# Altium integrated library TI_Logic_Little_Logic.IntLib: 1164 symbols (part 25 of 35)
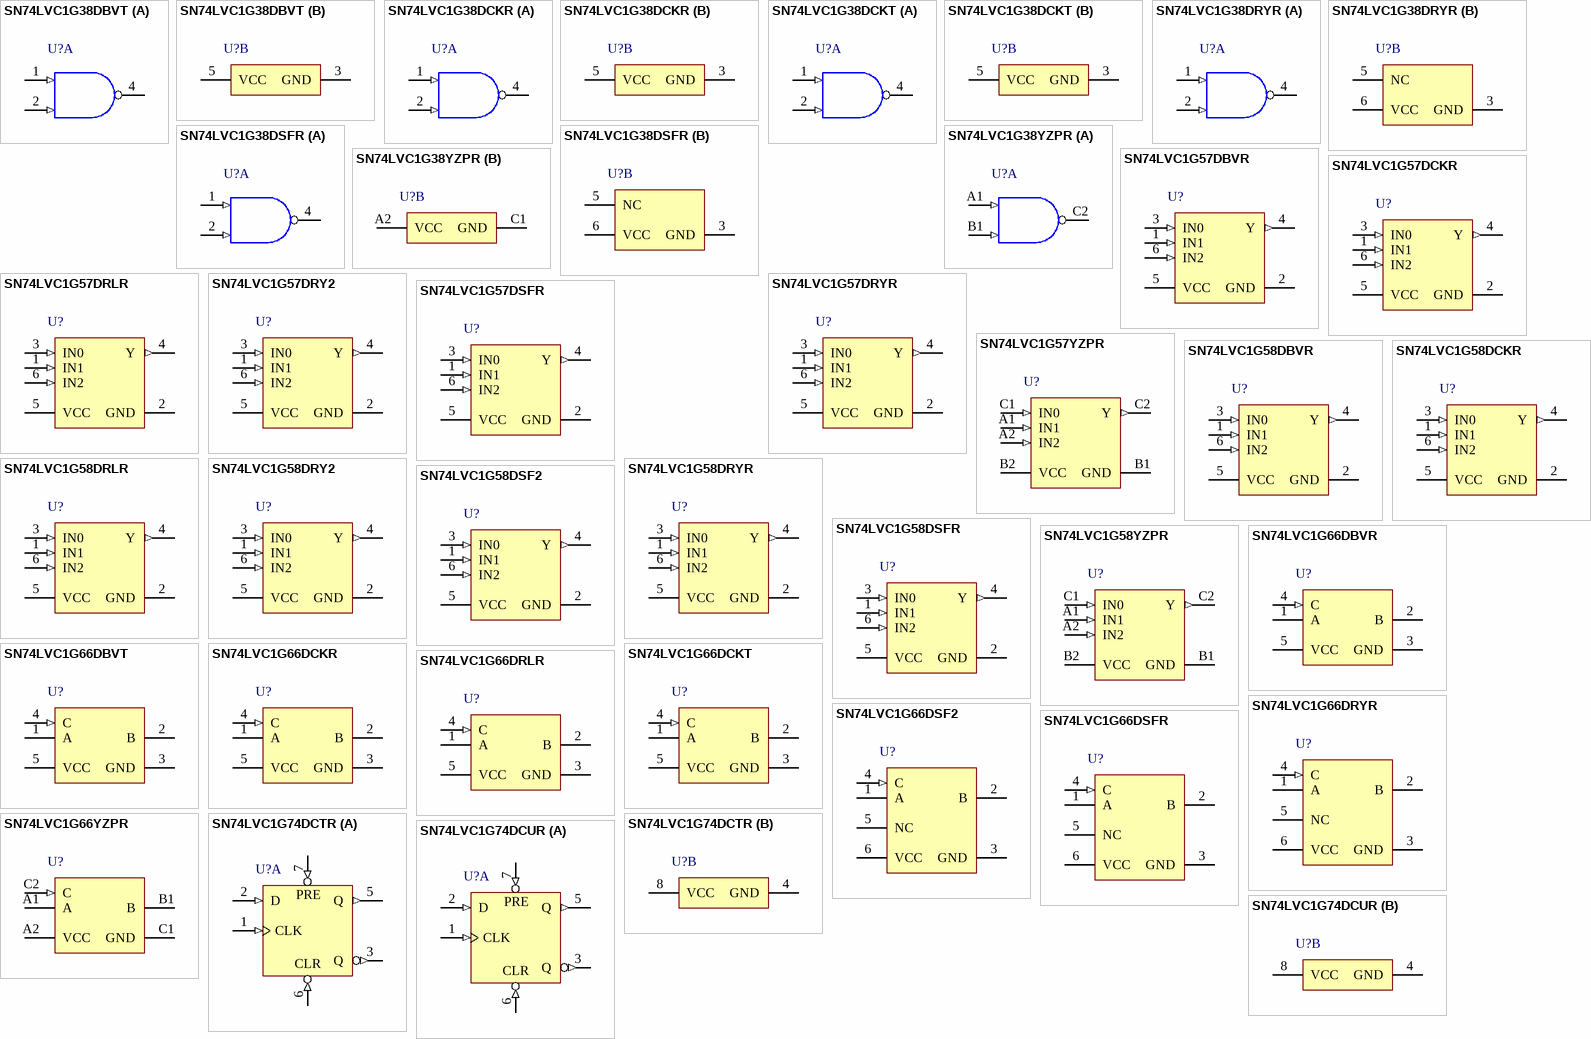
[diagram p84: symbols SN74LVC1G38DBVT to SN74LVC1G74DCUR]

## SN74LVC1G57DRLR
designator U?
CONFIGURABLE MULTIPLE-FUNCTION GATE, DRL0006A, LARGE T&R; Generic Part Number: SN74LVC1G57; Manufacturer: Texas Instruments; PartNumber: SN74LVC1G57DRLR; VCC(Min)(V): 1.65; VCC(Max)(V): 5.5; Output Type: CMOS; ICC @ Nom Voltage(Max)(mA): 0.01; Input Type: CMOS/TTL; Bits(#): 1; F @ Nom Voltage(Max)(Mhz): 150; Rating: Catalog; Technology Family: LVC; Voltage(Nom)(V): 1.8,2.5,3.3,5; Schmitt Trigger: No; Output Drive (IOL/IOH)(Max)(mA): 32/-32; tpd @ Nom Voltage(Max)(ns): 14.4,8.3,6.3,5.1; Logic: True; Sub-Family: Configurable Logic; DatasheetVersion: SCES414O; PackageReference: DRL0006A; Supplier 1: Mouser; Supplier Part Number 1: 595-SN74LVC1G57DRLR; Supplier 2: Digi-Key; Supplier Part Number 2: 296-18653-2-ND; Supplier 3: Digi-Key; Supplier Part Number 3: 296-18653-1-ND; Supplier 4: Digi-Key; Supplier Part Number 4: 296-18653-6-ND; Operating Temperature Range(C): -40 to 125; Gate Type: Configurable; 3-State Output: No; ComponentLink1Description: Manufacturer URL; ComponentLink1URL: http://www.ti.com/; ComponentLink2Description: Datasheet; ComponentLink2URL: http://www.ti.com/lit/ds/symlink/sn74lvc1g57.pdf
footprint DRL0006A_N (SOT23, 6-Leads, Body 1.7x1.3mm, Pitch 0.5mm, IPC Medium Density)
footprint DRL0006A_M (SOT23, 6-Leads, Body 1.7x1.3mm, Pitch 0.5mm, IPC Low Density)
footprint DRL0006A_L (SOT23, 6-Leads, Body 1.7x1.3mm, Pitch 0.5mm, IPC High Density)
pins: 1 IN1 (in), 2 GND (power), 3 IN0 (in), 4 Y (out), 5 VCC (power), 6 IN2 (in)

## SN74LVC1G57DRY2
designator U?
CONFIGURABLE MULTIPLE-FUNCTION GATE, DRY0006A, LARGE T&R; Generic Part Number: SN74LVC1G57; Manufacturer: Texas Instruments; PartNumber: SN74LVC1G57DRY2; VCC(Min)(V): 1.65; VCC(Max)(V): 5.5; Output Type: CMOS; ICC @ Nom Voltage(Max)(mA): 0.01; Input Type: CMOS/TTL; Bits(#): 1; F @ Nom Voltage(Max)(Mhz): 150; Rating: Catalog; Technology Family: LVC; Voltage(Nom)(V): 1.8,2.5,3.3,5; Schmitt Trigger: No; Output Drive (IOL/IOH)(Max)(mA): 32/-32; tpd @ Nom Voltage(Max)(ns): 14.4,8.3,6.3,5.1; Logic: True; Sub-Family: Configurable Logic; DatasheetVersion: SCES414O; PackageReference: DRY0006A; Supplier 1: Mouser; Supplier Part Number 1: 595-SN74LVC1G57DRY2; Supplier 2: Digi-Key; Supplier Part Number 2: 296-35756-2-ND; Supplier 3: Digi-Key; Supplier Part Number 3: 296-35756-1-ND; Supplier 4: Digi-Key; Supplier Part Number 4: 296-35756-6-ND; Operating Temperature Range(C): -40 to 125; Gate Type: Configurable; 3-State Output: No; ComponentLink1Description: Manufacturer URL; ComponentLink1URL: http://www.ti.com/; ComponentLink2Description: Datasheet; ComponentLink2URL: http://www.ti.com/lit/ds/symlink/sn74lvc1g57.pdf
footprint DRY0006A_V (SON, 6-Leads, Body 1.45x1mm, Pitch 0.5mm)
pins: 1 IN1 (in), 2 GND (power), 3 IN0 (in), 4 Y (out), 5 VCC (power), 6 IN2 (in)

## SN74LVC1G57DRYR
designator U?
CONFIGURABLE MULTIPLE-FUNCTION GATE, DRY0006A, LARGE T&R; Generic Part Number: SN74LVC1G57; Manufacturer: Texas Instruments; PartNumber: SN74LVC1G57DRYR; VCC(Min)(V): 1.65; VCC(Max)(V): 5.5; Output Type: CMOS; ICC @ Nom Voltage(Max)(mA): 0.01; Input Type: CMOS/TTL; Bits(#): 1; F @ Nom Voltage(Max)(Mhz): 150; Rating: Catalog; Technology Family: LVC; Voltage(Nom)(V): 1.8,2.5,3.3,5; Schmitt Trigger: No; Output Drive (IOL/IOH)(Max)(mA): 32/-32; tpd @ Nom Voltage(Max)(ns): 14.4,8.3,6.3,5.1; Logic: True; Sub-Family: Configurable Logic; DatasheetVersion: SCES414O; PackageReference: DRY0006A; Supplier 1: Mouser; Supplier Part Number 1: 595-SN74LVC1G57DRYR; Supplier 2: Digi-Key; Supplier Part Number 2: 296-29872-2-ND; Supplier 3: Digi-Key; Supplier Part Number 3: 296-29872-1-ND; Supplier 4: Digi-Key; Supplier Part Number 4: 296-29872-6-ND; Operating Temperature Range(C): -40 to 125; Gate Type: Configurable; 3-State Output: No; ComponentLink1Description: Manufacturer URL; ComponentLink1URL: http://www.ti.com/; ComponentLink2Description: Datasheet; ComponentLink2URL: http://www.ti.com/lit/ds/symlink/sn74lvc1g57.pdf
footprint DRY0006A_V (SON, 6-Leads, Body 1.45x1mm, Pitch 0.5mm)
pins: 1 IN1 (in), 2 GND (power), 3 IN0 (in), 4 Y (out), 5 VCC (power), 6 IN2 (in)

## SN74LVC1G57DSFR
designator U?
CONFIGURABLE MULTIPLE-FUNCTION GATE, DSF0006A, LARGE T&R; Generic Part Number: SN74LVC1G57; Manufacturer: Texas Instruments; PartNumber: SN74LVC1G57DSFR; VCC(Min)(V): 1.65; VCC(Max)(V): 5.5; Output Type: CMOS; ICC @ Nom Voltage(Max)(mA): 0.01; Input Type: CMOS/TTL; Bits(#): 1; F @ Nom Voltage(Max)(Mhz): 150; Rating: Catalog; Technology Family: LVC; Voltage(Nom)(V): 1.8,2.5,3.3,5; Schmitt Trigger: No; Output Drive (IOL/IOH)(Max)(mA): 32/-32; tpd @ Nom Voltage(Max)(ns): 14.4,8.3,6.3,5.1; Logic: True; Sub-Family: Configurable Logic; DatasheetVersion: SCES414O; PackageReference: DSF0006A; Supplier 1: Mouser; Supplier Part Number 1: 595-SN74LVC1G57DSFR; Supplier 2: Digi-Key; Supplier Part Number 2: 296-29873-2-ND; Supplier 3: Digi-Key; Supplier Part Number 3: 296-29873-1-ND; Supplier 4: Digi-Key; Supplier Part Number 4: 296-29873-6-ND; Operating Temperature Range(C): -40 to 125; Gate Type: Configurable; 3-State Output: No; ComponentLink1Description: Manufacturer URL; ComponentLink1URL: http://www.ti.com/; ComponentLink2Description: Datasheet; ComponentLink2URL: http://www.ti.com/lit/ds/symlink/sn74lvc1g57.pdf
footprint DSF0006A_V (SON, 6-Leads, Body 1x1mm, Pitch 0.35mm, TI Recommend)
pins: 1 IN1 (in), 2 GND (power), 3 IN0 (in), 4 Y (out), 5 VCC (power), 6 IN2 (in)

## SN74LVC1G57YZPR
designator U?
CONFIGURABLE MULTIPLE-FUNCTION GATE, YZP0006ADAD, LARGE T&R; Generic Part Number: SN74LVC1G57; Manufacturer: Texas Instruments; PartNumber: SN74LVC1G57YZPR; VCC(Min)(V): 1.65; VCC(Max)(V): 5.5; Output Type: CMOS; ICC @ Nom Voltage(Max)(mA): 0.01; Input Type: CMOS/TTL; Bits(#): 1; F @ Nom Voltage(Max)(Mhz): 150; Rating: Catalog; Technology Family: LVC; Voltage(Nom)(V): 1.8,2.5,3.3,5; Schmitt Trigger: No; Output Drive (IOL/IOH)(Max)(mA): 32/-32; tpd @ Nom Voltage(Max)(ns): 14.4,8.3,6.3,5.1; Logic: True; Sub-Family: Configurable Logic; DatasheetVersion: SCES414O; PackageReference: YZP0006ADAD; Supplier 1: Mouser; Supplier Part Number 1: 595-SN74LVC1G57YZPR; Supplier 2: Digi-Key; Supplier Part Number 2: 296-18784-2-ND; Supplier 3: Digi-Key; Supplier Part Number 3: 296-18784-1-ND; Operating Temperature Range(C): -40 to 125; Gate Type: Configurable; 3-State Output: No; ComponentLink1Description: Manufacturer URL; ComponentLink1URL: http://www.ti.com/; ComponentLink2Description: Datasheet; ComponentLink2URL: http://www.ti.com/lit/ds/symlink/sn74lvc1g57.pdf
footprint YZP0006ADAD (BGA, 6-Balls, Body 1.39x0.89mm, Pitch 0.5mm)
pins: A1 IN1 (in), A2 IN2 (in), B1 GND (power), B2 VCC (power), C1 IN0 (in), C2 Y (out)

## SN74LVC1G58DBVR
designator U?
CONFIGURABLE MULTIPLE-FUNCTION GATE, DBV0006A, LARGE T&R; Generic Part Number: SN74LVC1G58; Manufacturer: Texas Instruments; PartNumber: SN74LVC1G58DBVR; VCC(Min)(V): 1.65; VCC(Max)(V): 5.5; Output Type: CMOS; ICC @ Nom Voltage(Max)(mA): 0.01; Input Type: CMOS/TTL; Bits(#): 1; F @ Nom Voltage(Max)(Mhz): 150; Rating: Catalog; Technology Family: LVC; Voltage(Nom)(V): 1.8,2.5,3.3,5; Schmitt Trigger: No; Output Drive (IOL/IOH)(Max)(mA): 32/-32; tpd @ Nom Voltage(Max)(ns): 14.4,8.3,6.3,5.1; Logic: True; Sub-Family: Configurable Logic; DatasheetVersion: SCES415N; PackageReference: DBV0006A; Supplier 1: Mouser; Supplier Part Number 1: 595-SN74LVC1G58DBVR; Supplier 2: Digi-Key; Supplier Part Number 2: 296-15576-2-ND; Supplier 3: Digi-Key; Supplier Part Number 3: 296-15576-1-ND; Supplier 4: Digi-Key; Supplier Part Number 4: 296-15576-6-ND; Operating Temperature Range(C): -40 to 125,-40 to 85; Gate Type: Configurable; 3-State Output: No; ComponentLink1Description: Manufacturer URL; ComponentLink1URL: http://www.ti.com/; ComponentLink2Description: Datasheet; ComponentLink2URL: http://www.ti.com/lit/ds/symlink/sn74lvc1g58.pdf
footprint DBV0006A_N (SOT23, 6-Leads, Body 3.05x1.75mm, Pitch 0.95mm, IPC Medium Density)
footprint DBV0006A_M (SOT23, 6-Leads, Body 3.05x1.75mm, Pitch 0.95mm, IPC Low Density)
footprint DBV0006A_L (SOT23, 6-Leads, Body 3.05x1.75mm, Pitch 0.95mm, IPC High Density)
pins: 1 IN1 (in), 2 GND (power), 3 IN0 (in), 4 Y (out), 5 VCC (power), 6 IN2 (in)

## SN74LVC1G58DCKR
designator U?
CONFIGURABLE MULTIPLE-FUNCTION GATE, DCK0006A, LARGE T&R; Generic Part Number: SN74LVC1G58; Manufacturer: Texas Instruments; PartNumber: SN74LVC1G58DCKR; VCC(Min)(V): 1.65; VCC(Max)(V): 5.5; Output Type: CMOS; ICC @ Nom Voltage(Max)(mA): 0.01; Input Type: CMOS/TTL; Bits(#): 1; F @ Nom Voltage(Max)(Mhz): 150; Rating: Catalog; Technology Family: LVC; Voltage(Nom)(V): 1.8,2.5,3.3,5; Schmitt Trigger: No; Output Drive (IOL/IOH)(Max)(mA): 32/-32; tpd @ Nom Voltage(Max)(ns): 14.4,8.3,6.3,5.1; Logic: True; Sub-Family: Configurable Logic; DatasheetVersion: SCES415N; PackageReference: DCK0006A; Supplier 1: Mouser; Supplier Part Number 1: 595-SN74LVC1G58DCKR; Supplier 2: Digi-Key; Supplier Part Number 2: 296-15577-2-ND; Supplier 3: Digi-Key; Supplier Part Number 3: 296-15577-1-ND; Supplier 4: Digi-Key; Supplier Part Number 4: 296-15577-6-ND; Operating Temperature Range(C): -40 to 125,-40 to 85; Gate Type: Configurable; 3-State Output: No; ComponentLink1Description: Manufacturer URL; ComponentLink1URL: http://www.ti.com/; ComponentLink2Description: Datasheet; ComponentLink2URL: http://www.ti.com/lit/ds/symlink/sn74lvc1g58.pdf
footprint DCK0006A_N (SOT23, 6-Leads, Body 2.15x1.4mm, Pitch 0.65mm, IPC Medium Density)
footprint DCK0006A_M (SOT23, 6-Leads, Body 2.15x1.4mm, Pitch 0.65mm, IPC Low Density)
footprint DCK0006A_L (SOT23, 6-Leads, Body 2.15x1.4mm, Pitch 0.65mm, IPC High Density)
pins: 1 IN1 (in), 2 GND (power), 3 IN0 (in), 4 Y (out), 5 VCC (power), 6 IN2 (in)

## SN74LVC1G58DRLR
designator U?
CONFIGURABLE MULTIPLE-FUNCTION GATE, DRL0006A, LARGE T&R; Generic Part Number: SN74LVC1G58; Manufacturer: Texas Instruments; PartNumber: SN74LVC1G58DRLR; VCC(Min)(V): 1.65; VCC(Max)(V): 5.5; Output Type: CMOS; ICC @ Nom Voltage(Max)(mA): 0.01; Input Type: CMOS/TTL; Bits(#): 1; F @ Nom Voltage(Max)(Mhz): 150; Rating: Catalog; Technology Family: LVC; Voltage(Nom)(V): 1.8,2.5,3.3,5; Schmitt Trigger: No; Output Drive (IOL/IOH)(Max)(mA): 32/-32; tpd @ Nom Voltage(Max)(ns): 14.4,8.3,6.3,5.1; Logic: True; Sub-Family: Configurable Logic; DatasheetVersion: SCES415N; PackageReference: DRL0006A; Supplier 1: Mouser; Supplier Part Number 1: 595-SN74LVC1G58DRLR; Supplier 2: Digi-Key; Supplier Part Number 2: 296-18654-2-ND; Supplier 3: Digi-Key; Supplier Part Number 3: 296-18654-1-ND; Supplier 4: Digi-Key; Supplier Part Number 4: 296-18654-6-ND; Operating Temperature Range(C): -40 to 125,-40 to 85; Gate Type: Configurable; 3-State Output: No; ComponentLink1Description: Manufacturer URL; ComponentLink1URL: http://www.ti.com/; ComponentLink2Description: Datasheet; ComponentLink2URL: http://www.ti.com/lit/ds/symlink/sn74lvc1g58.pdf
footprint DRL0006A_N (SOT23, 6-Leads, Body 1.7x1.3mm, Pitch 0.5mm, IPC Medium Density)
footprint DRL0006A_M (SOT23, 6-Leads, Body 1.7x1.3mm, Pitch 0.5mm, IPC Low Density)
footprint DRL0006A_L (SOT23, 6-Leads, Body 1.7x1.3mm, Pitch 0.5mm, IPC High Density)
pins: 1 IN1 (in), 2 GND (power), 3 IN0 (in), 4 Y (out), 5 VCC (power), 6 IN2 (in)

## SN74LVC1G58DRY2
designator U?
CONFIGURABLE MULTIPLE-FUNCTION GATE, DRY0006A, LARGE T&R; Generic Part Number: SN74LVC1G58; Manufacturer: Texas Instruments; PartNumber: SN74LVC1G58DRY2; VCC(Min)(V): 1.65; VCC(Max)(V): 5.5; Output Type: CMOS; ICC @ Nom Voltage(Max)(mA): 0.01; Input Type: CMOS/TTL; Bits(#): 1; F @ Nom Voltage(Max)(Mhz): 150; Rating: Catalog; Technology Family: LVC; Voltage(Nom)(V): 1.8,2.5,3.3,5; Schmitt Trigger: No; Output Drive (IOL/IOH)(Max)(mA): 32/-32; tpd @ Nom Voltage(Max)(ns): 14.4,8.3,6.3,5.1; Logic: True; Sub-Family: Configurable Logic; DatasheetVersion: SCES415N; PackageReference: DRY0006A; Supplier 1: Mouser; Supplier Part Number 1: 595-SN74LVC1G58DRY2; Supplier 2: Digi-Key; Supplier Part Number 2: 296-35750-2-ND; Supplier 3: Digi-Key; Supplier Part Number 3: 296-35750-1-ND; Supplier 4: Digi-Key; Supplier Part Number 4: 296-35750-6-ND; Operating Temperature Range(C): -40 to 125,-40 to 85; Gate Type: Configurable; 3-State Output: No; ComponentLink1Description: Manufacturer URL; ComponentLink1URL: http://www.ti.com/; ComponentLink2Description: Datasheet; ComponentLink2URL: http://www.ti.com/lit/ds/symlink/sn74lvc1g58.pdf
footprint DRY0006A_V (SON, 6-Leads, Body 1.45x1mm, Pitch 0.5mm)
pins: 1 IN1 (in), 2 GND (power), 3 IN0 (in), 4 Y (out), 5 VCC (power), 6 IN2 (in)

## SN74LVC1G58DRYR
designator U?
CONFIGURABLE MULTIPLE-FUNCTION GATE, DRY0006A, LARGE T&R; Generic Part Number: SN74LVC1G58; Manufacturer: Texas Instruments; PartNumber: SN74LVC1G58DRYR; VCC(Min)(V): 1.65; VCC(Max)(V): 5.5; Output Type: CMOS; ICC @ Nom Voltage(Max)(mA): 0.01; Input Type: CMOS/TTL; Bits(#): 1; F @ Nom Voltage(Max)(Mhz): 150; Rating: Catalog; Technology Family: LVC; Voltage(Nom)(V): 1.8,2.5,3.3,5; Schmitt Trigger: No; Output Drive (IOL/IOH)(Max)(mA): 32/-32; tpd @ Nom Voltage(Max)(ns): 14.4,8.3,6.3,5.1; Logic: True; Sub-Family: Configurable Logic; DatasheetVersion: SCES415N; PackageReference: DRY0006A; Supplier 1: Mouser; Supplier Part Number 1: 595-SN74LVC1G58DRYR; Supplier 2: Digi-Key; Supplier Part Number 2: 296-29845-2-ND; Supplier 3: Digi-Key; Supplier Part Number 3: 296-29845-1-ND; Supplier 4: Digi-Key; Supplier Part Number 4: 296-29845-6-ND; Operating Temperature Range(C): -40 to 125,-40 to 85; Gate Type: Configurable; 3-State Output: No; ComponentLink1Description: Manufacturer URL; ComponentLink1URL: http://www.ti.com/; ComponentLink2Description: Datasheet; ComponentLink2URL: http://www.ti.com/lit/ds/symlink/sn74lvc1g58.pdf
footprint DRY0006A_V (SON, 6-Leads, Body 1.45x1mm, Pitch 0.5mm)
pins: 1 IN1 (in), 2 GND (power), 3 IN0 (in), 4 Y (out), 5 VCC (power), 6 IN2 (in)

## SN74LVC1G58DSF2
designator U?
CONFIGURABLE MULTIPLE-FUNCTION GATE, DSF0006A, LARGE T&R; Generic Part Number: SN74LVC1G58; Manufacturer: Texas Instruments; PartNumber: SN74LVC1G58DSF2; VCC(Min)(V): 1.65; VCC(Max)(V): 5.5; Output Type: CMOS; ICC @ Nom Voltage(Max)(mA): 0.01; Input Type: CMOS/TTL; Bits(#): 1; F @ Nom Voltage(Max)(Mhz): 150; Rating: Catalog; Technology Family: LVC; Voltage(Nom)(V): 1.8,2.5,3.3,5; Schmitt Trigger: No; Output Drive (IOL/IOH)(Max)(mA): 32/-32; tpd @ Nom Voltage(Max)(ns): 14.4,8.3,6.3,5.1; Logic: True; Sub-Family: Configurable Logic; DatasheetVersion: SCES415N; PackageReference: DSF0006A; Supplier 1: Mouser; Supplier Part Number 1: 595-SN74LVC1G58DSF2; Supplier 2: Digi-Key; Supplier Part Number 2: SN74LVC1G58DSF2-ND; Operating Temperature Range(C): -40 to 125,-40 to 85; Gate Type: Configurable; 3-State Output: No; ComponentLink1Description: Manufacturer URL; ComponentLink1URL: http://www.ti.com/; ComponentLink2Description: Datasheet; ComponentLink2URL: http://www.ti.com/lit/ds/symlink/sn74lvc1g58.pdf
footprint DSF0006A_V (SON, 6-Leads, Body 1x1mm, Pitch 0.35mm, TI Recommend)
pins: 1 IN1 (in), 2 GND (power), 3 IN0 (in), 4 Y (out), 5 VCC (power), 6 IN2 (in)

## SN74LVC1G58DSFR
designator U?
CONFIGURABLE MULTIPLE-FUNCTION GATE, DSF0006A, LARGE T&R; Generic Part Number: SN74LVC1G58; Manufacturer: Texas Instruments; PartNumber: SN74LVC1G58DSFR; VCC(Min)(V): 1.65; VCC(Max)(V): 5.5; Output Type: CMOS; ICC @ Nom Voltage(Max)(mA): 0.01; Input Type: CMOS/TTL; Bits(#): 1; F @ Nom Voltage(Max)(Mhz): 150; Rating: Catalog; Technology Family: LVC; Voltage(Nom)(V): 1.8,2.5,3.3,5; Schmitt Trigger: No; Output Drive (IOL/IOH)(Max)(mA): 32/-32; tpd @ Nom Voltage(Max)(ns): 14.4,8.3,6.3,5.1; Logic: True; Sub-Family: Configurable Logic; DatasheetVersion: SCES415N; PackageReference: DSF0006A; Supplier 1: Mouser; Supplier Part Number 1: 595-SN74LVC1G58DSFR; Supplier 2: Digi-Key; Supplier Part Number 2: 296-29846-2-ND; Supplier 3: Digi-Key; Supplier Part Number 3: 296-29846-1-ND; Supplier 4: Digi-Key; Supplier Part Number 4: 296-29846-6-ND; Operating Temperature Range(C): -40 to 125,-40 to 85; Gate Type: Configurable; 3-State Output: No; ComponentLink1Description: Manufacturer URL; ComponentLink1URL: http://www.ti.com/; ComponentLink2Description: Datasheet; ComponentLink2URL: http://www.ti.com/lit/ds/symlink/sn74lvc1g58.pdf
footprint DSF0006A_V (SON, 6-Leads, Body 1x1mm, Pitch 0.35mm, TI Recommend)
pins: 1 IN1 (in), 2 GND (power), 3 IN0 (in), 4 Y (out), 5 VCC (power), 6 IN2 (in)

## SN74LVC1G58YZPR
designator U?
CONFIGURABLE MULTIPLE-FUNCTION GATE, YZP0006ADAD, LARGE T&R; Generic Part Number: SN74LVC1G58; Manufacturer: Texas Instruments; PartNumber: SN74LVC1G58YZPR; VCC(Min)(V): 1.65; VCC(Max)(V): 5.5; Output Type: CMOS; ICC @ Nom Voltage(Max)(mA): 0.01; Input Type: CMOS/TTL; Bits(#): 1; F @ Nom Voltage(Max)(Mhz): 150; Rating: Catalog; Technology Family: LVC; Voltage(Nom)(V): 1.8,2.5,3.3,5; Schmitt Trigger: No; Output Drive (IOL/IOH)(Max)(mA): 32/-32; tpd @ Nom Voltage(Max)(ns): 14.4,8.3,6.3,5.1; Logic: True; Sub-Family: Configurable Logic; DatasheetVersion: SCES415N; PackageReference: YZP0006ADAD; Supplier 1: Mouser; Supplier Part Number 1: 595-SN74LVC1G58YZPR; Supplier 2: Digi-Key; Supplier Part Number 2: 296-18785-2-ND; Supplier 3: Digi-Key; Supplier Part Number 3: 296-18785-1-ND; Operating Temperature Range(C): -40 to 125,-40 to 85; Gate Type: Configurable; 3-State Output: No; ComponentLink1Description: Manufacturer URL; ComponentLink1URL: http://www.ti.com/; ComponentLink2Description: Datasheet; ComponentLink2URL: http://www.ti.com/lit/ds/symlink/sn74lvc1g58.pdf
footprint YZP0006ADAD (BGA, 6-Balls, Body 1.39x0.89mm, Pitch 0.5mm)
pins: A1 IN1 (in), A2 IN2 (in), B1 GND (power), B2 VCC (power), C1 IN0 (in), C2 Y (out)

## SN74LVC1G66DBVR
designator U?
Single Analog Switch, DBV0005A, LARGE T&R; Generic Part Number: SN74LVC1G66; Manufacturer: Texas Instruments; PartNumber: SN74LVC1G66DBVR; VCC(Min)(V): 1.65; VCC(Max)(V): 5.5; Output Type: CMOS; Logic: True; ICC @ Nom Voltage(Max)(mA): 0.01; Input Type: CMOS/TTL; Bits(#): 1; F @ Nom Voltage(Max)(Mhz): 150; Rating: Catalog; Technology Family: LVC; Voltage(Nom)(V): 1.8,2.5,3.3,5; Schmitt Trigger: No; Output Drive (IOL/IOH)(Max)(mA): 32/-32; Switch Configuration: SPST; tpd @ Nom Voltage(Max)(ns): 2,1.2,0.8,0.6; DatasheetVersion: SCES323O; PackageReference: DBV0005A; Supplier 1: Mouser; Supplier Part Number 1: 595-SN74LVC1G66DBVR; Supplier 2: Digi-Key; Supplier Part Number 2: 296-13253-2-ND; Supplier 3: Digi-Key; Supplier Part Number 3: 296-13253-1-ND; Supplier 4: Digi-Key; Supplier Part Number 4: 296-13253-6-ND; Operating Temperature Range(C): -40 to 85; Channels(#): 1; 3-State Output: No; ComponentLink1Description: Manufacturer URL; ComponentLink1URL: http://www.ti.com/; ComponentLink2Description: Datasheet; ComponentLink2URL: http://www.ti.com/lit/ds/symlink/sn74lvc1g66.pdf
footprint DBV0005A_N (SOT23, 5-Leads, Body 3.05x1.75mm, Pitch 0.95mm, IPC Medium Density)
footprint DBV0005A_M (SOT23, 5-Leads, Body 3.05x1.75mm, Pitch 0.95mm, IPC Low Density)
footprint DBV0005A_L (SOT23, 5-Leads, Body 3.05x1.75mm, Pitch 0.95mm, IPC High Density)
pins: 1 A "Bidirectional signal to be switched", 2 B "Bidirectional signal to be switched", 3 GND (power) "Ground pin", 4 C (in) "Controls the switch (L = OFF, H = ON)", 5 VCC (power) "Power pin"

## SN74LVC1G66DBVT
designator U?
Single Analog Switch, DBV0005A, SMALL T&R; Generic Part Number: SN74LVC1G66; Manufacturer: Texas Instruments; PartNumber: SN74LVC1G66DBVT; VCC(Min)(V): 1.65; VCC(Max)(V): 5.5; Output Type: CMOS; Logic: True; ICC @ Nom Voltage(Max)(mA): 0.01; Input Type: CMOS/TTL; Bits(#): 1; F @ Nom Voltage(Max)(Mhz): 150; Rating: Catalog; Technology Family: LVC; Voltage(Nom)(V): 1.8,2.5,3.3,5; Schmitt Trigger: No; Output Drive (IOL/IOH)(Max)(mA): 32/-32; Switch Configuration: SPST; tpd @ Nom Voltage(Max)(ns): 2,1.2,0.8,0.6; DatasheetVersion: SCES323O; PackageReference: DBV0005A; Supplier 1: Mouser; Supplier Part Number 1: 595-SN74LVC1G66DBVT; Supplier 2: Digi-Key; Supplier Part Number 2: 296-26605-2-ND; Supplier 3: Digi-Key; Supplier Part Number 3: 296-26605-1-ND; Supplier 4: Digi-Key; Supplier Part Number 4: 296-26605-6-ND; Operating Temperature Range(C): -40 to 85; Channels(#): 1; 3-State Output: No; ComponentLink1Description: Manufacturer URL; ComponentLink1URL: http://www.ti.com/; ComponentLink2Description: Datasheet; ComponentLink2URL: http://www.ti.com/lit/ds/symlink/sn74lvc1g66.pdf
footprint DBV0005A_N (SOT23, 5-Leads, Body 3.05x1.75mm, Pitch 0.95mm, IPC Medium Density)
footprint DBV0005A_M (SOT23, 5-Leads, Body 3.05x1.75mm, Pitch 0.95mm, IPC Low Density)
footprint DBV0005A_L (SOT23, 5-Leads, Body 3.05x1.75mm, Pitch 0.95mm, IPC High Density)
pins: 1 A "Bidirectional signal to be switched", 2 B "Bidirectional signal to be switched", 3 GND (power) "Ground pin", 4 C (in) "Controls the switch (L = OFF, H = ON)", 5 VCC (power) "Power pin"

## SN74LVC1G66DCKR
designator U?
Single Analog Switch, DCK0005A, LARGE T&R; Generic Part Number: SN74LVC1G66; Manufacturer: Texas Instruments; PartNumber: SN74LVC1G66DCKR; VCC(Min)(V): 1.65; VCC(Max)(V): 5.5; Output Type: CMOS; Logic: True; ICC @ Nom Voltage(Max)(mA): 0.01; Input Type: CMOS/TTL; Bits(#): 1; F @ Nom Voltage(Max)(Mhz): 150; Rating: Catalog; Technology Family: LVC; Voltage(Nom)(V): 1.8,2.5,3.3,5; Schmitt Trigger: No; Output Drive (IOL/IOH)(Max)(mA): 32/-32; Switch Configuration: SPST; tpd @ Nom Voltage(Max)(ns): 2,1.2,0.8,0.6; DatasheetVersion: SCES323O; PackageReference: DCK0005A; Supplier 1: Mouser; Supplier Part Number 1: 595-SN74LVC1G66DCKR; Supplier 2: Digi-Key; Supplier Part Number 2: 296-13254-2-ND; Supplier 3: Digi-Key; Supplier Part Number 3: 296-13254-1-ND; Supplier 4: Digi-Key; Supplier Part Number 4: 296-13254-6-ND; Operating Temperature Range(C): -40 to 85; Channels(#): 1; 3-State Output: No; ComponentLink1Description: Manufacturer URL; ComponentLink1URL: http://www.ti.com/; ComponentLink2Description: Datasheet; ComponentLink2URL: http://www.ti.com/lit/ds/symlink/sn74lvc1g66.pdf
footprint DCK0005A_N (SOT23, 5-Leads, Body 2.15x1.4mm, Pitch 0.65mm, IPC Medium Density)
footprint DCK0005A_M (SOT23, 5-Leads, Body 2.15x1.4mm, Pitch 0.65mm, IPC Low Density)
footprint DCK0005A_L (SOT23, 5-Leads, Body 2.15x1.4mm, Pitch 0.65mm, IPC High Density)
pins: 1 A "Bidirectional signal to be switched", 2 B "Bidirectional signal to be switched", 3 GND (power) "Ground pin", 4 C (in) "Controls the switch (L = OFF, H = ON)", 5 VCC (power) "Power pin"

## SN74LVC1G66DCKT
designator U?
Single Analog Switch, DCK0005A, SMALL T&R; Generic Part Number: SN74LVC1G66; Manufacturer: Texas Instruments; PartNumber: SN74LVC1G66DCKT; VCC(Min)(V): 1.65; VCC(Max)(V): 5.5; Output Type: CMOS; Logic: True; ICC @ Nom Voltage(Max)(mA): 0.01; Input Type: CMOS/TTL; Bits(#): 1; F @ Nom Voltage(Max)(Mhz): 150; Rating: Catalog; Technology Family: LVC; Voltage(Nom)(V): 1.8,2.5,3.3,5; Schmitt Trigger: No; Output Drive (IOL/IOH)(Max)(mA): 32/-32; Switch Configuration: SPST; tpd @ Nom Voltage(Max)(ns): 2,1.2,0.8,0.6; DatasheetVersion: SCES323O; PackageReference: DCK0005A; Supplier 1: Mouser; Supplier Part Number 1: 595-SN74LVC1G66DCKT; Supplier 2: Digi-Key; Supplier Part Number 2: 296-32304-2-ND; Supplier 3: Digi-Key; Supplier Part Number 3: 296-32304-1-ND; Supplier 4: Digi-Key; Supplier Part Number 4: 296-32304-6-ND; Operating Temperature Range(C): -40 to 85; Channels(#): 1; 3-State Output: No; ComponentLink1Description: Manufacturer URL; ComponentLink1URL: http://www.ti.com/; ComponentLink2Description: Datasheet; ComponentLink2URL: http://www.ti.com/lit/ds/symlink/sn74lvc1g66.pdf
footprint DCK0005A_N (SOT23, 5-Leads, Body 2.15x1.4mm, Pitch 0.65mm, IPC Medium Density)
footprint DCK0005A_M (SOT23, 5-Leads, Body 2.15x1.4mm, Pitch 0.65mm, IPC Low Density)
footprint DCK0005A_L (SOT23, 5-Leads, Body 2.15x1.4mm, Pitch 0.65mm, IPC High Density)
pins: 1 A "Bidirectional signal to be switched", 2 B "Bidirectional signal to be switched", 3 GND (power) "Ground pin", 4 C (in) "Controls the switch (L = OFF, H = ON)", 5 VCC (power) "Power pin"

## SN74LVC1G66DRLR
designator U?
Single Analog Switch, DRL0005A, LARGE T&R; Generic Part Number: SN74LVC1G66; Manufacturer: Texas Instruments; PartNumber: SN74LVC1G66DRLR; VCC(Min)(V): 1.65; VCC(Max)(V): 5.5; Output Type: CMOS; Logic: True; ICC @ Nom Voltage(Max)(mA): 0.01; Input Type: CMOS/TTL; Bits(#): 1; F @ Nom Voltage(Max)(Mhz): 150; Rating: Catalog; Technology Family: LVC; Voltage(Nom)(V): 1.8,2.5,3.3,5; Schmitt Trigger: No; Output Drive (IOL/IOH)(Max)(mA): 32/-32; Switch Configuration: SPST; tpd @ Nom Voltage(Max)(ns): 2,1.2,0.8,0.6; DatasheetVersion: SCES323O; PackageReference: DRL0005A; Supplier 1: Mouser; Supplier Part Number 1: 595-SN74LVC1G66DRLR; Supplier 2: Digi-Key; Supplier Part Number 2: 296-18018-2-ND; Supplier 3: Digi-Key; Supplier Part Number 3: 296-18018-1-ND; Supplier 4: Digi-Key; Supplier Part Number 4: 296-18018-6-ND; Operating Temperature Range(C): -40 to 85; Channels(#): 1; 3-State Output: No; ComponentLink1Description: Manufacturer URL; ComponentLink1URL: http://www.ti.com/; ComponentLink2Description: Datasheet; ComponentLink2URL: http://www.ti.com/lit/ds/symlink/sn74lvc1g66.pdf
footprint DRL0005A_N (SOT23, 5-Leads, Body 1.7x1.3mm, Pitch 0.5mm, IPC Medium Density)
footprint DRL0005A_M (SOT23, 5-Leads, Body 1.7x1.3mm, Pitch 0.5mm, IPC Low Density)
footprint DRL0005A_L (SOT23, 5-Leads, Body 1.7x1.3mm, Pitch 0.5mm, IPC High Density)
pins: 1 A "Bidirectional signal to be switched", 2 B "Bidirectional signal to be switched", 3 GND (power) "Ground pin", 4 C (in) "Controls the switch (L = OFF, H = ON)", 5 VCC (power) "Power pin"

## SN74LVC1G66DRYR
designator U?
Single Analog Switch, DRY0006A, LARGE T&R; Generic Part Number: SN74LVC1G66; Manufacturer: Texas Instruments; PartNumber: SN74LVC1G66DRYR; VCC(Min)(V): 1.65; VCC(Max)(V): 5.5; Output Type: CMOS; Logic: True; ICC @ Nom Voltage(Max)(mA): 0.01; Input Type: CMOS/TTL; Bits(#): 1; F @ Nom Voltage(Max)(Mhz): 150; Rating: Catalog; Technology Family: LVC; Voltage(Nom)(V): 1.8,2.5,3.3,5; Schmitt Trigger: No; Output Drive (IOL/IOH)(Max)(mA): 32/-32; Switch Configuration: SPST; tpd @ Nom Voltage(Max)(ns): 2,1.2,0.8,0.6; DatasheetVersion: SCES323O; PackageReference: DRY0006A; Supplier 1: Mouser; Supplier Part Number 1: 595-SN74LVC1G66DRYR; Supplier 2: Digi-Key; Supplier Part Number 2: 296-30237-2-ND; Supplier 3: Digi-Key; Supplier Part Number 3: 296-30237-1-ND; Supplier 4: Digi-Key; Supplier Part Number 4: 296-30237-6-ND; Operating Temperature Range(C): -40 to 85; Channels(#): 1; 3-State Output: No; ComponentLink1Description: Manufacturer URL; ComponentLink1URL: http://www.ti.com/; ComponentLink2Description: Datasheet; ComponentLink2URL: http://www.ti.com/lit/ds/symlink/sn74lvc1g66.pdf
footprint DRY0006A_V (SON, 6-Leads, Body 1.45x1mm, Pitch 0.5mm)
pins: 1 A "Bidirectional signal to be switched", 2 B "Bidirectional signal to be switched", 3 GND (power) "Ground pin", 4 C (in) "Controls the switch (L = OFF, H = ON)", 5 NC "Do not connect", 6 VCC (power) "Power pin"

## SN74LVC1G66DSF2
designator U?
Single Analog Switch, DSF0006A, LARGE T&R; Generic Part Number: SN74LVC1G66; Manufacturer: Texas Instruments; PartNumber: SN74LVC1G66DSF2; VCC(Min)(V): 1.65; VCC(Max)(V): 5.5; Output Type: CMOS; Logic: True; ICC @ Nom Voltage(Max)(mA): 0.01; Input Type: CMOS/TTL; Bits(#): 1; F @ Nom Voltage(Max)(Mhz): 150; Rating: Catalog; Technology Family: LVC; Voltage(Nom)(V): 1.8,2.5,3.3,5; Schmitt Trigger: No; Output Drive (IOL/IOH)(Max)(mA): 32/-32; Switch Configuration: SPST; tpd @ Nom Voltage(Max)(ns): 2,1.2,0.8,0.6; DatasheetVersion: SCES323O; PackageReference: DSF0006A; Supplier 1: Mouser; Supplier Part Number 1: 595-SN74LVC1G66DSF2; Supplier 2: Digi-Key; Supplier Part Number 2: SN74LVC1G66DSF2-ND; Operating Temperature Range(C): -40 to 85; Channels(#): 1; 3-State Output: No; ComponentLink1Description: Manufacturer URL; ComponentLink1URL: http://www.ti.com/; ComponentLink2Description: Datasheet; ComponentLink2URL: http://www.ti.com/lit/ds/symlink/sn74lvc1g66.pdf
footprint DSF0006A_V (SON, 6-Leads, Body 1x1mm, Pitch 0.35mm, TI Recommend)
pins: 1 A "Bidirectional signal to be switched", 2 B "Bidirectional signal to be switched", 3 GND (power) "Ground pin", 4 C (in) "Controls the switch (L = OFF, H = ON)", 5 NC "Do not connect", 6 VCC (power) "Power pin"

## SN74LVC1G66DSFR
designator U?
Single Analog Switch, DSF0006A, LARGE T&R; Generic Part Number: SN74LVC1G66; Manufacturer: Texas Instruments; PartNumber: SN74LVC1G66DSFR; VCC(Min)(V): 1.65; VCC(Max)(V): 5.5; Output Type: CMOS; Logic: True; ICC @ Nom Voltage(Max)(mA): 0.01; Input Type: CMOS/TTL; Bits(#): 1; F @ Nom Voltage(Max)(Mhz): 150; Rating: Catalog; Technology Family: LVC; Voltage(Nom)(V): 1.8,2.5,3.3,5; Schmitt Trigger: No; Output Drive (IOL/IOH)(Max)(mA): 32/-32; Switch Configuration: SPST; tpd @ Nom Voltage(Max)(ns): 2,1.2,0.8,0.6; DatasheetVersion: SCES323O; PackageReference: DSF0006A; Supplier 1: Mouser; Supplier Part Number 1: 595-SN74LVC1G66DSFR; Supplier 2: Digi-Key; Supplier Part Number 2: 296-30236-2-ND; Supplier 3: Digi-Key; Supplier Part Number 3: 296-30236-1-ND; Supplier 4: Digi-Key; Supplier Part Number 4: 296-30236-6-ND; Operating Temperature Range(C): -40 to 85; Channels(#): 1; 3-State Output: No; ComponentLink1Description: Manufacturer URL; ComponentLink1URL: http://www.ti.com/; ComponentLink2Description: Datasheet; ComponentLink2URL: http://www.ti.com/lit/ds/symlink/sn74lvc1g66.pdf
footprint DSF0006A_V (SON, 6-Leads, Body 1x1mm, Pitch 0.35mm, TI Recommend)
pins: 1 A "Bidirectional signal to be switched", 2 B "Bidirectional signal to be switched", 3 GND (power) "Ground pin", 4 C (in) "Controls the switch (L = OFF, H = ON)", 5 NC "Do not connect", 6 VCC (power) "Power pin"

## SN74LVC1G66YZPR
designator U?
Single Analog Switch, YZP0005ADAD, LARGE T&R; Generic Part Number: SN74LVC1G66; Manufacturer: Texas Instruments; PartNumber: SN74LVC1G66YZPR; VCC(Min)(V): 1.65; VCC(Max)(V): 5.5; Output Type: CMOS; Logic: True; ICC @ Nom Voltage(Max)(mA): 0.01; Input Type: CMOS/TTL; Bits(#): 1; F @ Nom Voltage(Max)(Mhz): 150; Rating: Catalog; Technology Family: LVC; Voltage(Nom)(V): 1.8,2.5,3.3,5; Schmitt Trigger: No; Output Drive (IOL/IOH)(Max)(mA): 32/-32; Switch Configuration: SPST; tpd @ Nom Voltage(Max)(ns): 2,1.2,0.8,0.6; DatasheetVersion: SCES323O; PackageReference: YZP0005ADAD; Supplier 1: Mouser; Supplier Part Number 1: 595-SN74LVC1G66YZPR; Supplier 2: Digi-Key; Supplier Part Number 2: 296-15108-2-ND; Supplier 3: Digi-Key; Supplier Part Number 3: 296-15108-1-ND; Supplier 4: Digi-Key; Supplier Part Number 4: 296-15108-6-ND; Operating Temperature Range(C): -40 to 85; Channels(#): 1; 3-State Output: No; ComponentLink1Description: Manufacturer URL; ComponentLink1URL: http://www.ti.com/; ComponentLink2Description: Datasheet; ComponentLink2URL: http://www.ti.com/lit/ds/symlink/sn74lvc1g66.pdf
footprint YZP0005ADAD (BGA, 5-Balls, Body 1.39x0.89mm, Pitch 0.5mm)
pins: A1 A, A2 VCC (power), B1 B, C1 GND (power), C2 C (in)

## SN74LVC1G74DCTR
designator U?
Single Positive-Edge-Triggered D-Type Flip-Flop With Clear and Preset, DCT0008A, LARGE T&R; Generic Part Number: SN74LVC1G74; Manufacturer: Texas Instruments; PartNumber: SN74LVC1G74DCTR; VCC(Min)(V): 1.65; VCC(Max)(V): 5.5; Output Type: CMOS; ICC @ Nom Voltage(Max)(mA): 0.01; Input Type: CMOS/TTL; Bits(#): 1; F @ Nom Voltage(Max)(Mhz): 150; Rating: Catalog; Technology Family: LVC; Voltage(Nom)(V): 1.8,2.5,3.3,5; Schmitt Trigger: No; Output Drive (IOL/IOH)(Max)(mA): 32/-32; tpd @ Nom Voltage(Max)(ns): 13.4,7.1,5.9,4.1; Logic: True; DatasheetVersion: SCES794E; PackageReference: DCT0008A; Supplier 1: Mouser; Supplier Part Number 1: 595-SN74LVC1G74DCTR; Supplier 2: Digi-Key; Supplier Part Number 2: 296-25553-2-ND; Supplier 3: Digi-Key; Supplier Part Number 3: 296-25553-1-ND; Supplier 4: Digi-Key; Supplier Part Number 4: 296-25553-6-ND; Operating Temperature Range(C): -40 to 125; 3-State Output: No; Sub-Family: D-Type Flip-Flop; ComponentLink1Description: Manufacturer URL; ComponentLink1URL: http://www.ti.com/; ComponentLink2Description: Datasheet; ComponentLink2URL: http://www.ti.com/lit/ds/symlink/sn74lvc1g74.pdf
footprint DCT0008A_N (SOP, 8-Leads, Body 2.9x3.2mm, Pitch 0.65mm, IPC Medium Density)
footprint DCT0008A_M (SOP, 8-Leads, Body 2.9x3.2mm, Pitch 0.65mm, IPC Low Density)
footprint DCT0008A_L (SOP, 8-Leads, Body 2.9x3.2mm, Pitch 0.65mm, IPC High Density)
part A pins: 1 CLK (in) "Clock input", 2 D (in) "Input", 3 Q (out) "Inverted output", 5 Q (out) "Output", 6 ~{CLR} (in) "Clear input - Pull low to set Q output low", 7 ~{PRE} (in) "Preset input - Pull low to set Q output high"
part B pins: 4 GND (power) "Ground", 8 VCC (power) "Supply"
part A text: PRE; CLR

## SN74LVC1G74DCUR
designator U?
Single Positive-Edge-Triggered D-Type Flip-Flop With Clear and Preset, DCU0008A, LARGE T&R; Generic Part Number: SN74LVC1G74; Manufacturer: Texas Instruments; PartNumber: SN74LVC1G74DCUR; VCC(Min)(V): 1.65; VCC(Max)(V): 5.5; Output Type: CMOS; ICC @ Nom Voltage(Max)(mA): 0.01; Input Type: CMOS/TTL; Bits(#): 1; F @ Nom Voltage(Max)(Mhz): 150; Rating: Catalog; Technology Family: LVC; Voltage(Nom)(V): 1.8,2.5,3.3,5; Schmitt Trigger: No; Output Drive (IOL/IOH)(Max)(mA): 32/-32; tpd @ Nom Voltage(Max)(ns): 13.4,7.1,5.9,4.1; Logic: True; DatasheetVersion: SCES794E; PackageReference: DCU0008A; Supplier 1: Mouser; Supplier Part Number 1: 595-SN74LVC1G74DCUR; Supplier 2: Digi-Key; Supplier Part Number 2: 296-25554-2-ND; Supplier 3: Digi-Key; Supplier Part Number 3: 296-25554-1-ND; Supplier 4: Digi-Key; Supplier Part Number 4: 296-25554-6-ND; Operating Temperature Range(C): -40 to 125; 3-State Output: No; Sub-Family: D-Type Flip-Flop; ComponentLink1Description: Manufacturer URL; ComponentLink1URL: http://www.ti.com/; ComponentLink2Description: Datasheet; ComponentLink2URL: http://www.ti.com/lit/ds/symlink/sn74lvc1g74.pdf
footprint DCU0008A_N (SOP, 8-Leads, Body 2.4x2.1mm, Pitch 0.5mm, IPC Medium Density)
footprint DCU0008A_M (SOP, 8-Leads, Body 2.4x2.1mm, Pitch 0.5mm, IPC Low Density)
footprint DCU0008A_L (SOP, 8-Leads, Body 2.4x2.1mm, Pitch 0.5mm, IPC High Density)
part A pins: 1 CLK (in) "Clock input", 2 D (in) "Input", 3 Q (out) "Inverted output", 5 Q (out) "Output", 6 ~{CLR} (in) "Clear input - Pull low to set Q output low", 7 ~{PRE} (in) "Preset input - Pull low to set Q output high"
part B pins: 4 GND (power) "Ground", 8 VCC (power) "Supply"
part A text: PRE; CLR

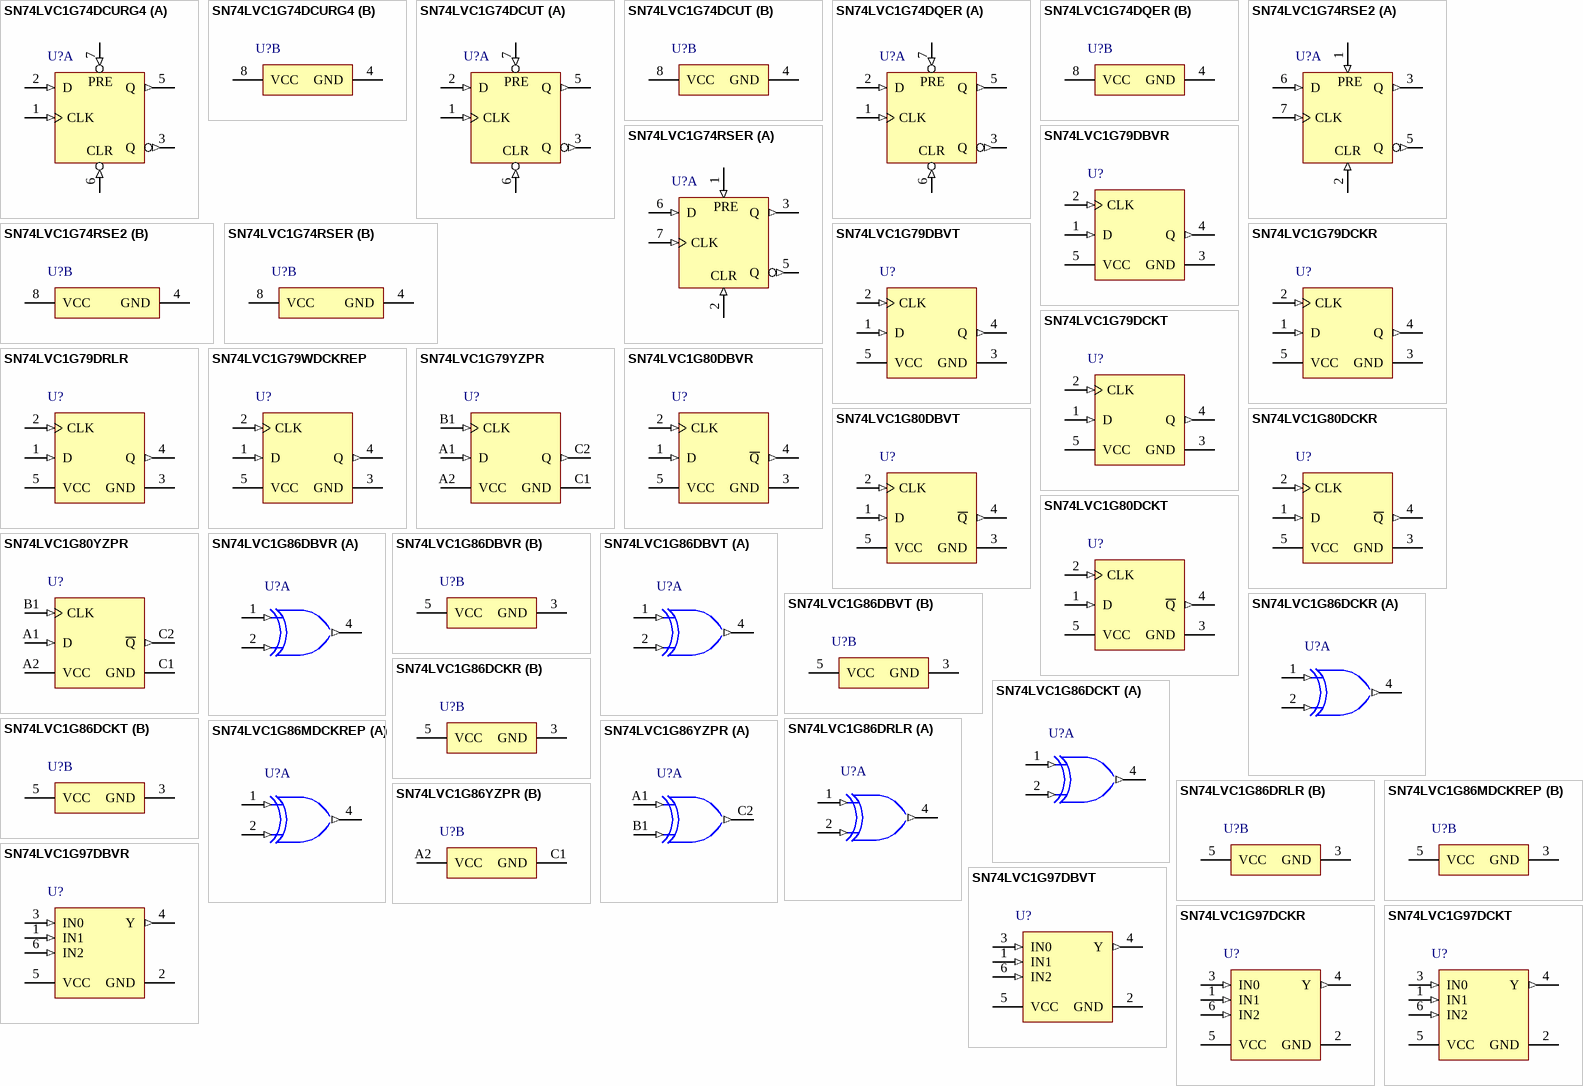
[diagram p42: symbols SN74LVC1G74DCURG4 to SN74LVC1G97DCKT]

## SN74LVC1G74DCURG4
designator U?
Single Positive-Edge-Triggered D-Type Flip-Flop With Clear and Preset, DCU0008A, LARGE T&R; Generic Part Number: SN74LVC1G74; Manufacturer: Texas Instruments; PartNumber: SN74LVC1G74DCURG4; VCC(Min)(V): 1.65; VCC(Max)(V): 5.5; Output Type: CMOS; ICC @ Nom Voltage(Max)(mA): 0.01; Input Type: CMOS/TTL; Bits(#): 1; F @ Nom Voltage(Max)(Mhz): 150; Rating: Catalog; Technology Family: LVC; Voltage(Nom)(V): 1.8,2.5,3.3,5; Schmitt Trigger: No; Output Drive (IOL/IOH)(Max)(mA): 32/-32; tpd @ Nom Voltage(Max)(ns): 13.4,7.1,5.9,4.1; Logic: True; DatasheetVersion: SCES794E; PackageReference: DCU0008A; Supplier 1: Mouser; Supplier Part Number 1: 595-N74LVC1G74DCURG4; Supplier 2: Digi-Key; Supplier Part Number 2: SN74LVC1G74DCURG4-ND; Operating Temperature Range(C): -40 to 125; 3-State Output: No; Sub-Family: D-Type Flip-Flop; ComponentLink1Description: Manufacturer URL; ComponentLink1URL: http://www.ti.com/; ComponentLink2Description: Datasheet; ComponentLink2URL: http://www.ti.com/lit/ds/symlink/sn74lvc1g74.pdf
footprint DCU0008A_N (SOP, 8-Leads, Body 2.4x2.1mm, Pitch 0.5mm, IPC Medium Density)
footprint DCU0008A_M (SOP, 8-Leads, Body 2.4x2.1mm, Pitch 0.5mm, IPC Low Density)
footprint DCU0008A_L (SOP, 8-Leads, Body 2.4x2.1mm, Pitch 0.5mm, IPC High Density)
part A pins: 1 CLK (in) "Clock input", 2 D (in) "Input", 3 Q (out) "Inverted output", 5 Q (out) "Output", 6 ~{CLR} (in) "Clear input - Pull low to set Q output low", 7 ~{PRE} (in) "Preset input - Pull low to set Q output high"
part B pins: 4 GND (power) "Ground", 8 VCC (power) "Supply"
part A text: PRE; CLR

## SN74LVC1G74DCUT
designator U?
Single Positive-Edge-Triggered D-Type Flip-Flop With Clear and Preset, DCU0008A, SMALL T&R; Generic Part Number: SN74LVC1G74; Manufacturer: Texas Instruments; PartNumber: SN74LVC1G74DCUT; VCC(Min)(V): 1.65; VCC(Max)(V): 5.5; Output Type: CMOS; ICC @ Nom Voltage(Max)(mA): 0.01; Input Type: CMOS/TTL; Bits(#): 1; F @ Nom Voltage(Max)(Mhz): 150; Rating: Catalog; Technology Family: LVC; Voltage(Nom)(V): 1.8,2.5,3.3,5; Schmitt Trigger: No; Output Drive (IOL/IOH)(Max)(mA): 32/-32; tpd @ Nom Voltage(Max)(ns): 13.4,7.1,5.9,4.1; Logic: True; DatasheetVersion: SCES794E; PackageReference: DCU0008A; Supplier 1: Mouser; Supplier Part Number 1: 595-SN74LVC1G74DCUT; Supplier 2: Digi-Key; Supplier Part Number 2: 296-32305-2-ND; Supplier 3: Digi-Key; Supplier Part Number 3: 296-32305-1-ND; Supplier 4: Digi-Key; Supplier Part Number 4: 296-32305-6-ND; Operating Temperature Range(C): -40 to 125; 3-State Output: No; Sub-Family: D-Type Flip-Flop; ComponentLink1Description: Manufacturer URL; ComponentLink1URL: http://www.ti.com/; ComponentLink2Description: Datasheet; ComponentLink2URL: http://www.ti.com/lit/ds/symlink/sn74lvc1g74.pdf
footprint DCU0008A_N (SOP, 8-Leads, Body 2.4x2.1mm, Pitch 0.5mm, IPC Medium Density)
footprint DCU0008A_M (SOP, 8-Leads, Body 2.4x2.1mm, Pitch 0.5mm, IPC Low Density)
footprint DCU0008A_L (SOP, 8-Leads, Body 2.4x2.1mm, Pitch 0.5mm, IPC High Density)
part A pins: 1 CLK (in) "Clock input", 2 D (in) "Input", 3 Q (out) "Inverted output", 5 Q (out) "Output", 6 ~{CLR} (in) "Clear input - Pull low to set Q output low", 7 ~{PRE} (in) "Preset input - Pull low to set Q output high"
part B pins: 4 GND (power) "Ground", 8 VCC (power) "Supply"
part A text: PRE; CLR

## SN74LVC1G74DQER
designator U?
Single Positive-Edge-Triggered D-Type Flip-Flop With Clear and Preset, DQE0008A, LARGE T&R; Generic Part Number: SN74LVC1G74; Manufacturer: Texas Instruments; PartNumber: SN74LVC1G74DQER; VCC(Min)(V): 1.65; VCC(Max)(V): 5.5; Output Type: CMOS; ICC @ Nom Voltage(Max)(mA): 0.01; Input Type: CMOS/TTL; Bits(#): 1; F @ Nom Voltage(Max)(Mhz): 150; Rating: Catalog; Technology Family: LVC; Voltage(Nom)(V): 1.8,2.5,3.3,5; Schmitt Trigger: No; Output Drive (IOL/IOH)(Max)(mA): 32/-32; tpd @ Nom Voltage(Max)(ns): 13.4,7.1,5.9,4.1; Logic: True; DatasheetVersion: SCES794E; PackageReference: DQE0008A; Supplier 1: Mouser; Supplier Part Number 1: 595-SN74LVC1G74DQER; Supplier 2: Digi-Key; Supplier Part Number 2: 296-35529-2-ND; Supplier 3: Digi-Key; Supplier Part Number 3: 296-35529-1-ND; Supplier 4: Digi-Key; Supplier Part Number 4: 296-35529-6-ND; Operating Temperature Range(C): -40 to 125; 3-State Output: No; Sub-Family: D-Type Flip-Flop; ComponentLink1Description: Manufacturer URL; ComponentLink1URL: http://www.ti.com/; ComponentLink2Description: Datasheet; ComponentLink2URL: http://www.ti.com/lit/ds/symlink/sn74lvc1g74.pdf
footprint DQE0008A_V (SON, 8-Leads, Body 1.4x1mm, Pitch 0.35mm, TI Recommend)
part A pins: 1 CLK (in) "Clock input", 2 D (in) "Input", 3 Q (out) "Inverted output", 5 Q (out) "Output", 6 ~{CLR} (in) "Clear input - Pull low to set Q output low", 7 ~{PRE} (in) "Preset input - Pull low to set Q output high"
part B pins: 4 GND (power) "Ground", 8 VCC (power) "Supply"
part A text: PRE; CLR

## SN74LVC1G74RSE2
designator U?
Single Positive-Edge-Triggered D-Type Flip-Flop With Clear and Preset, RSE0008A, LARGE T&R; Generic Part Number: SN74LVC1G74; Manufacturer: Texas Instruments; PartNumber: SN74LVC1G74RSE2; VCC(Min)(V): 1.65; VCC(Max)(V): 5.5; Output Type: CMOS; ICC @ Nom Voltage(Max)(mA): 0.01; Input Type: CMOS/TTL; Bits(#): 1; F @ Nom Voltage(Max)(Mhz): 150; Rating: Catalog; Technology Family: LVC; Voltage(Nom)(V): 1.8,2.5,3.3,5; Schmitt Trigger: No; Output Drive (IOL/IOH)(Max)(mA): 32/-32; tpd @ Nom Voltage(Max)(ns): 13.4,7.1,5.9,4.1; Logic: True; DatasheetVersion: SCES794E; PackageReference: RSE0008A; Supplier 1: Mouser; Supplier Part Number 1: 595-SN74LVC1G74RSE2; Supplier 2: Digi-Key; Supplier Part Number 2: 296-35530-2-ND; Supplier 3: Digi-Key; Supplier Part Number 3: 296-35530-1-ND; Supplier 4: Digi-Key; Supplier Part Number 4: 296-35530-6-ND; Operating Temperature Range(C): -40 to 125; 3-State Output: No; Sub-Family: D-Type Flip-Flop; ComponentLink1Description: Manufacturer URL; ComponentLink1URL: http://www.ti.com/; ComponentLink2Description: Datasheet; ComponentLink2URL: http://www.ti.com/lit/ds/symlink/sn74lvc1g74.pdf
footprint RSE0008A_V (QFN, 8-Leads, Body 1.5x1.5mm, Pitch 0.5mm, TI Recommend)
part A pins: 1 ~{PRE} (in), 2 ~{CLR} (in), 3 Q (out), 5 Q (out), 6 D (in), 7 CLK (in)
part B pins: 4 GND (power), 8 VCC (power)
part A text: PRE; CLR

## SN74LVC1G74RSER
designator U?
Single Positive-Edge-Triggered D-Type Flip-Flop With Clear and Preset, RSE0008A, LARGE T&R; Generic Part Number: SN74LVC1G74; Manufacturer: Texas Instruments; PartNumber: SN74LVC1G74RSER; VCC(Min)(V): 1.65; VCC(Max)(V): 5.5; Output Type: CMOS; ICC @ Nom Voltage(Max)(mA): 0.01; Input Type: CMOS/TTL; Bits(#): 1; F @ Nom Voltage(Max)(Mhz): 150; Rating: Catalog; Technology Family: LVC; Voltage(Nom)(V): 1.8,2.5,3.3,5; Schmitt Trigger: No; Output Drive (IOL/IOH)(Max)(mA): 32/-32; tpd @ Nom Voltage(Max)(ns): 13.4,7.1,5.9,4.1; Logic: True; DatasheetVersion: SCES794E; PackageReference: RSE0008A; Supplier 1: Mouser; Supplier Part Number 1: 595-SN74LVC1G74RSER; Supplier 2: Digi-Key; Supplier Part Number 2: 296-35610-2-ND; Supplier 3: Digi-Key; Supplier Part Number 3: 296-35610-1-ND; Supplier 4: Digi-Key; Supplier Part Number 4: 296-35610-6-ND; Operating Temperature Range(C): -40 to 125; 3-State Output: No; Sub-Family: D-Type Flip-Flop; ComponentLink1Description: Manufacturer URL; ComponentLink1URL: http://www.ti.com/; ComponentLink2Description: Datasheet; ComponentLink2URL: http://www.ti.com/lit/ds/symlink/sn74lvc1g74.pdf
footprint RSE0008A_V (QFN, 8-Leads, Body 1.5x1.5mm, Pitch 0.5mm, TI Recommend)
part A pins: 1 ~{PRE} (in), 2 ~{CLR} (in), 3 Q (out), 5 Q (out), 6 D (in), 7 CLK (in)
part B pins: 4 GND (power), 8 VCC (power)
part A text: PRE; CLR

## SN74LVC1G79DBVR
designator U?
Single Positive-Edge-Triggered D-Type Flip-Flop, DBV0005A, LARGE T&R; Generic Part Number: SN74LVC1G79; Manufacturer: Texas Instruments; PartNumber: SN74LVC1G79DBVR; VCC(Min)(V): 1.65; VCC(Max)(V): 5.5; Output Type: CMOS; ICC @ Nom Voltage(Max)(mA): 0.01; Input Type: CMOS/TTL; Bits(#): 1; F @ Nom Voltage(Max)(Mhz): 150; Rating: Catalog; Technology Family: LVC; Voltage(Nom)(V): 1.8,2.5,3.3,5; Schmitt Trigger: No; Output Drive (IOL/IOH)(Max)(mA): 32/-32; tpd @ Nom Voltage(Max)(ns): 12,8.5,6,5; Logic: True; DatasheetVersion: SCES220T; PackageReference: DBV0005A; Supplier 1: Mouser; Supplier Part Number 1: 595-SN74LVC1G79DBVR; Supplier 2: Digi-Key; Supplier Part Number 2: 296-9849-2-ND; Supplier 3: Digi-Key; Supplier Part Number 3: 296-9849-1-ND; Supplier 4: Digi-Key; Supplier Part Number 4: 296-9849-6-ND; Operating Temperature Range(C): -40 to 125,-40 to 85; 3-State Output: No; Sub-Family: D-Type Flip-Flop; ComponentLink1Description: Manufacturer URL; ComponentLink1URL: http://www.ti.com/; ComponentLink2Description: Datasheet; ComponentLink2URL: http://www.ti.com/lit/ds/symlink/sn74lvc1g79.pdf
footprint DBV0005A_N (SOT23, 5-Leads, Body 3.05x1.75mm, Pitch 0.95mm, IPC Medium Density)
footprint DBV0005A_M (SOT23, 5-Leads, Body 3.05x1.75mm, Pitch 0.95mm, IPC Low Density)
footprint DBV0005A_L (SOT23, 5-Leads, Body 3.05x1.75mm, Pitch 0.95mm, IPC High Density)
pins: 1 D (in) "Data Input", 2 CLK (in) "Clock Input", 3 GND (power) "Ground", 4 Q (out) "Q Output", 5 VCC (power) "Power"

## SN74LVC1G79DBVT
designator U?
Single Positive-Edge-Triggered D-Type Flip-Flop, DBV0005A, SMALL T&R; Generic Part Number: SN74LVC1G79; Manufacturer: Texas Instruments; PartNumber: SN74LVC1G79DBVT; VCC(Min)(V): 1.65; VCC(Max)(V): 5.5; Output Type: CMOS; ICC @ Nom Voltage(Max)(mA): 0.01; Input Type: CMOS/TTL; Bits(#): 1; F @ Nom Voltage(Max)(Mhz): 150; Rating: Catalog; Technology Family: LVC; Voltage(Nom)(V): 1.8,2.5,3.3,5; Schmitt Trigger: No; Output Drive (IOL/IOH)(Max)(mA): 32/-32; tpd @ Nom Voltage(Max)(ns): 12,8.5,6,5; Logic: True; DatasheetVersion: SCES220T; PackageReference: DBV0005A; Supplier 1: Mouser; Supplier Part Number 1: 595-SN74LVC1G79DBVT; Supplier 2: Digi-Key; Supplier Part Number 2: 296-32306-2-ND; Supplier 3: Digi-Key; Supplier Part Number 3: 296-32306-1-ND; Supplier 4: Digi-Key; Supplier Part Number 4: 296-32306-6-ND; Operating Temperature Range(C): -40 to 125,-40 to 85; 3-State Output: No; Sub-Family: D-Type Flip-Flop; ComponentLink1Description: Manufacturer URL; ComponentLink1URL: http://www.ti.com/; ComponentLink2Description: Datasheet; ComponentLink2URL: http://www.ti.com/lit/ds/symlink/sn74lvc1g79.pdf
footprint DBV0005A_N (SOT23, 5-Leads, Body 3.05x1.75mm, Pitch 0.95mm, IPC Medium Density)
footprint DBV0005A_M (SOT23, 5-Leads, Body 3.05x1.75mm, Pitch 0.95mm, IPC Low Density)
footprint DBV0005A_L (SOT23, 5-Leads, Body 3.05x1.75mm, Pitch 0.95mm, IPC High Density)
pins: 1 D (in) "Data Input", 2 CLK (in) "Clock Input", 3 GND (power) "Ground", 4 Q (out) "Q Output", 5 VCC (power) "Power"

## SN74LVC1G79DCKR
designator U?
Single Positive-Edge-Triggered D-Type Flip-Flop, DCK0005A, LARGE T&R; Generic Part Number: SN74LVC1G79; Manufacturer: Texas Instruments; PartNumber: SN74LVC1G79DCKR; VCC(Min)(V): 1.65; VCC(Max)(V): 5.5; Output Type: CMOS; ICC @ Nom Voltage(Max)(mA): 0.01; Input Type: CMOS/TTL; Bits(#): 1; F @ Nom Voltage(Max)(Mhz): 150; Rating: Catalog; Technology Family: LVC; Voltage(Nom)(V): 1.8,2.5,3.3,5; Schmitt Trigger: No; Output Drive (IOL/IOH)(Max)(mA): 32/-32; tpd @ Nom Voltage(Max)(ns): 12,8.5,6,5; Logic: True; DatasheetVersion: SCES220T; PackageReference: DCK0005A; Supplier 1: Mouser; Supplier Part Number 1: 595-SN74LVC1G79DCKR; Supplier 2: Digi-Key; Supplier Part Number 2: 296-9850-2-ND; Supplier 3: Digi-Key; Supplier Part Number 3: 296-9850-1-ND; Supplier 4: Digi-Key; Supplier Part Number 4: 296-9850-6-ND; Operating Temperature Range(C): -40 to 125,-40 to 85; 3-State Output: No; Sub-Family: D-Type Flip-Flop; ComponentLink1Description: Manufacturer URL; ComponentLink1URL: http://www.ti.com/; ComponentLink2Description: Datasheet; ComponentLink2URL: http://www.ti.com/lit/ds/symlink/sn74lvc1g79.pdf
footprint DCK0005A_N (SOT23, 5-Leads, Body 2.15x1.4mm, Pitch 0.65mm, IPC Medium Density)
footprint DCK0005A_M (SOT23, 5-Leads, Body 2.15x1.4mm, Pitch 0.65mm, IPC Low Density)
footprint DCK0005A_L (SOT23, 5-Leads, Body 2.15x1.4mm, Pitch 0.65mm, IPC High Density)
pins: 1 D (in) "Data Input", 2 CLK (in) "Clock Input", 3 GND (power) "Ground", 4 Q (out) "Q Output", 5 VCC (power) "Power"

## SN74LVC1G79DCKT
designator U?
Single Positive-Edge-Triggered D-Type Flip-Flop, DCK0005A, SMALL T&R; Generic Part Number: SN74LVC1G79; Manufacturer: Texas Instruments; PartNumber: SN74LVC1G79DCKT; VCC(Min)(V): 1.65; VCC(Max)(V): 5.5; Output Type: CMOS; ICC @ Nom Voltage(Max)(mA): 0.01; Input Type: CMOS/TTL; Bits(#): 1; F @ Nom Voltage(Max)(Mhz): 150; Rating: Catalog; Technology Family: LVC; Voltage(Nom)(V): 1.8,2.5,3.3,5; Schmitt Trigger: No; Output Drive (IOL/IOH)(Max)(mA): 32/-32; tpd @ Nom Voltage(Max)(ns): 12,8.5,6,5; Logic: True; DatasheetVersion: SCES220T; PackageReference: DCK0005A; Supplier 1: Mouser; Supplier Part Number 1: 595-SN74LVC1G79DCKT; Supplier 2: Digi-Key; Supplier Part Number 2: 296-32307-2-ND; Supplier 3: Digi-Key; Supplier Part Number 3: 296-32307-1-ND; Supplier 4: Digi-Key; Supplier Part Number 4: 296-32307-6-ND; Operating Temperature Range(C): -40 to 125,-40 to 85; 3-State Output: No; Sub-Family: D-Type Flip-Flop; ComponentLink1Description: Manufacturer URL; ComponentLink1URL: http://www.ti.com/; ComponentLink2Description: Datasheet; ComponentLink2URL: http://www.ti.com/lit/ds/symlink/sn74lvc1g79.pdf
footprint DCK0005A_N (SOT23, 5-Leads, Body 2.15x1.4mm, Pitch 0.65mm, IPC Medium Density)
footprint DCK0005A_M (SOT23, 5-Leads, Body 2.15x1.4mm, Pitch 0.65mm, IPC Low Density)
footprint DCK0005A_L (SOT23, 5-Leads, Body 2.15x1.4mm, Pitch 0.65mm, IPC High Density)
pins: 1 D (in) "Data Input", 2 CLK (in) "Clock Input", 3 GND (power) "Ground", 4 Q (out) "Q Output", 5 VCC (power) "Power"

## SN74LVC1G79DRLR
designator U?
Single Positive-Edge-Triggered D-Type Flip-Flop, DRL0005A, LARGE T&R; Generic Part Number: SN74LVC1G79; Manufacturer: Texas Instruments; PartNumber: SN74LVC1G79DRLR; VCC(Min)(V): 1.65; VCC(Max)(V): 5.5; Output Type: CMOS; ICC @ Nom Voltage(Max)(mA): 0.01; Input Type: CMOS/TTL; Bits(#): 1; F @ Nom Voltage(Max)(Mhz): 150; Rating: Catalog; Technology Family: LVC; Voltage(Nom)(V): 1.8,2.5,3.3,5; Schmitt Trigger: No; Output Drive (IOL/IOH)(Max)(mA): 32/-32; tpd @ Nom Voltage(Max)(ns): 12,8.5,6,5; Logic: True; DatasheetVersion: SCES220T; PackageReference: DRL0005A; Supplier 1: Mouser; Supplier Part Number 1: 595-SN74LVC1G79DRLR; Supplier 2: Digi-Key; Supplier Part Number 2: 296-18019-2-ND; Supplier 3: Digi-Key; Supplier Part Number 3: 296-18019-1-ND; Supplier 4: Digi-Key; Supplier Part Number 4: 296-18019-6-ND; Operating Temperature Range(C): -40 to 125,-40 to 85; 3-State Output: No; Sub-Family: D-Type Flip-Flop; ComponentLink1Description: Manufacturer URL; ComponentLink1URL: http://www.ti.com/; ComponentLink2Description: Datasheet; ComponentLink2URL: http://www.ti.com/lit/ds/symlink/sn74lvc1g79.pdf
footprint DRL0005A_N (SOT23, 5-Leads, Body 1.7x1.3mm, Pitch 0.5mm, IPC Medium Density)
footprint DRL0005A_M (SOT23, 5-Leads, Body 1.7x1.3mm, Pitch 0.5mm, IPC Low Density)
footprint DRL0005A_L (SOT23, 5-Leads, Body 1.7x1.3mm, Pitch 0.5mm, IPC High Density)
pins: 1 D (in) "Data Input", 2 CLK (in) "Clock Input", 3 GND (power) "Ground", 4 Q (out) "Q Output", 5 VCC (power) "Power"